# EAGLE library part NOKIA_5110_2 (library personal)
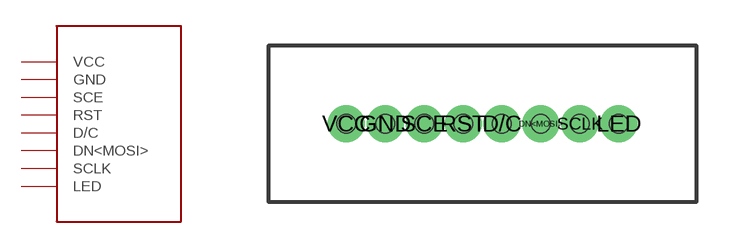
[diagram p1: symbol with the pads of NOKIA_5110_2; footprint NOKIA_5110_2]

Designator prefix -

## NOKIA_5110_2  [NOKIA_5110_2]
D/C  D/C
DN<MOSI>  DN<MOSI>
GND  GND
LED  LED
RST  RST
SCE  SCE
SCLK  SCLK
VCC  VCC

## Footprint NOKIA_5110_2 (pad centres in mm)
drill 0.7 pad 1.016: D/C -6.35,-2.54; DN<MOSI> -5.08,-2.54; GND -10.16,-2.54; LED -2.54,-2.54; RST -7.62,-2.54; SCE -8.89,-2.54; SCLK -3.81,-2.54; VCC -11.43,-2.54
hole 0.6 at -11.43,-2.54
hole 0.6 at -10.16,-2.54
hole 0.6 at -8.89,-2.54
hole 0.6 at -7.62,-2.54
hole 0.6 at -6.35,-2.54
hole 0.6 at -5.08,-2.54
hole 0.6 at -3.81,-2.54
hole 0.6 at -2.54,-2.54